# Altium footprint library VHDR-TH-2X1.PcbLib: 1 footprints
Each footprint in its own frame and in the unit in brackets; x right, y up, seen from the top. Pads: shape width x height; smd on the part's side, far side on the other; paste and mask are expansions set on the pad; w line width, h text height; cw(c..) or ccw(c..) is an arc to the next point about the centre after c.
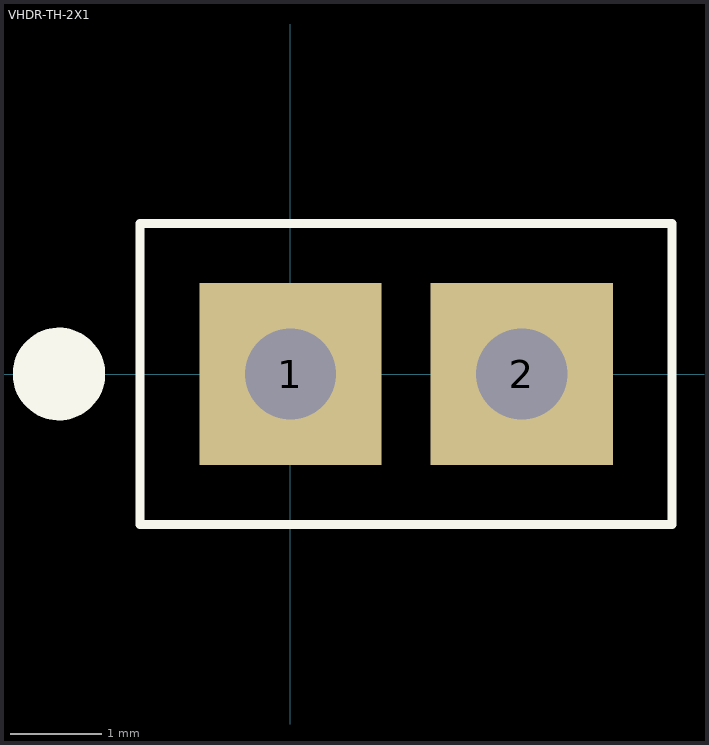
[diagram p0: the footprint, top view; thin cyan lines are the x and y axes]

## VHDR-TH-2X1 [mm]
pads (2):
  rect 2x2 hole 1: 1(0,0) 2(2.54,0)
Top Overlay:
  circle w0.508: c-2.54,0 r0.254
  lines w0.1: -1.651,-1.651 4.191,-1.651 4.191,1.651 -1.651,1.651 -1.651,-1.651